# EAGLE library part KSWHA-1-20+ (library MiniCircuitsSCantu)
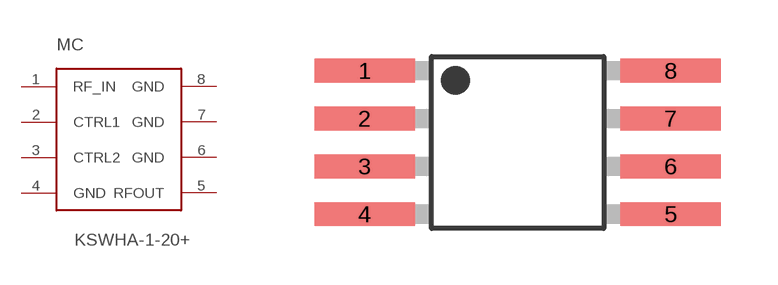
[diagram p0: symbol with the pads of XX112; footprint XX112]

Designator prefix MC

## KSWHA-1-20+  [XX112]
1  RF_IN
2  CTRL1
3  CTRL2
4  GND
5  RFOUT
6  GND
7  GND
8  GND

## Footprint XX112 (pad centres in mm)
smd 2.667 x 0.635: 1 -3.937,1.905; 2 -3.937,0.635; 3 -3.937,-0.635; 4 -3.937,-1.905; 5 4.191,-1.905; 6 4.191,-0.635; 7 4.191,0.635; 8 4.191,1.905